# Altium footprint library ATM90E3x-DB.PcbLib: 32 footprints (part 2 of 2)
Each footprint in its own frame and in the unit in brackets; x right, y up, seen from the top. Pads: shape width x height; smd on the part's side, far side on the other; paste and mask are expansions set on the pad; w line width, h text height; cw(c..) or ccw(c..) is an arc to the next point about the centre after c.
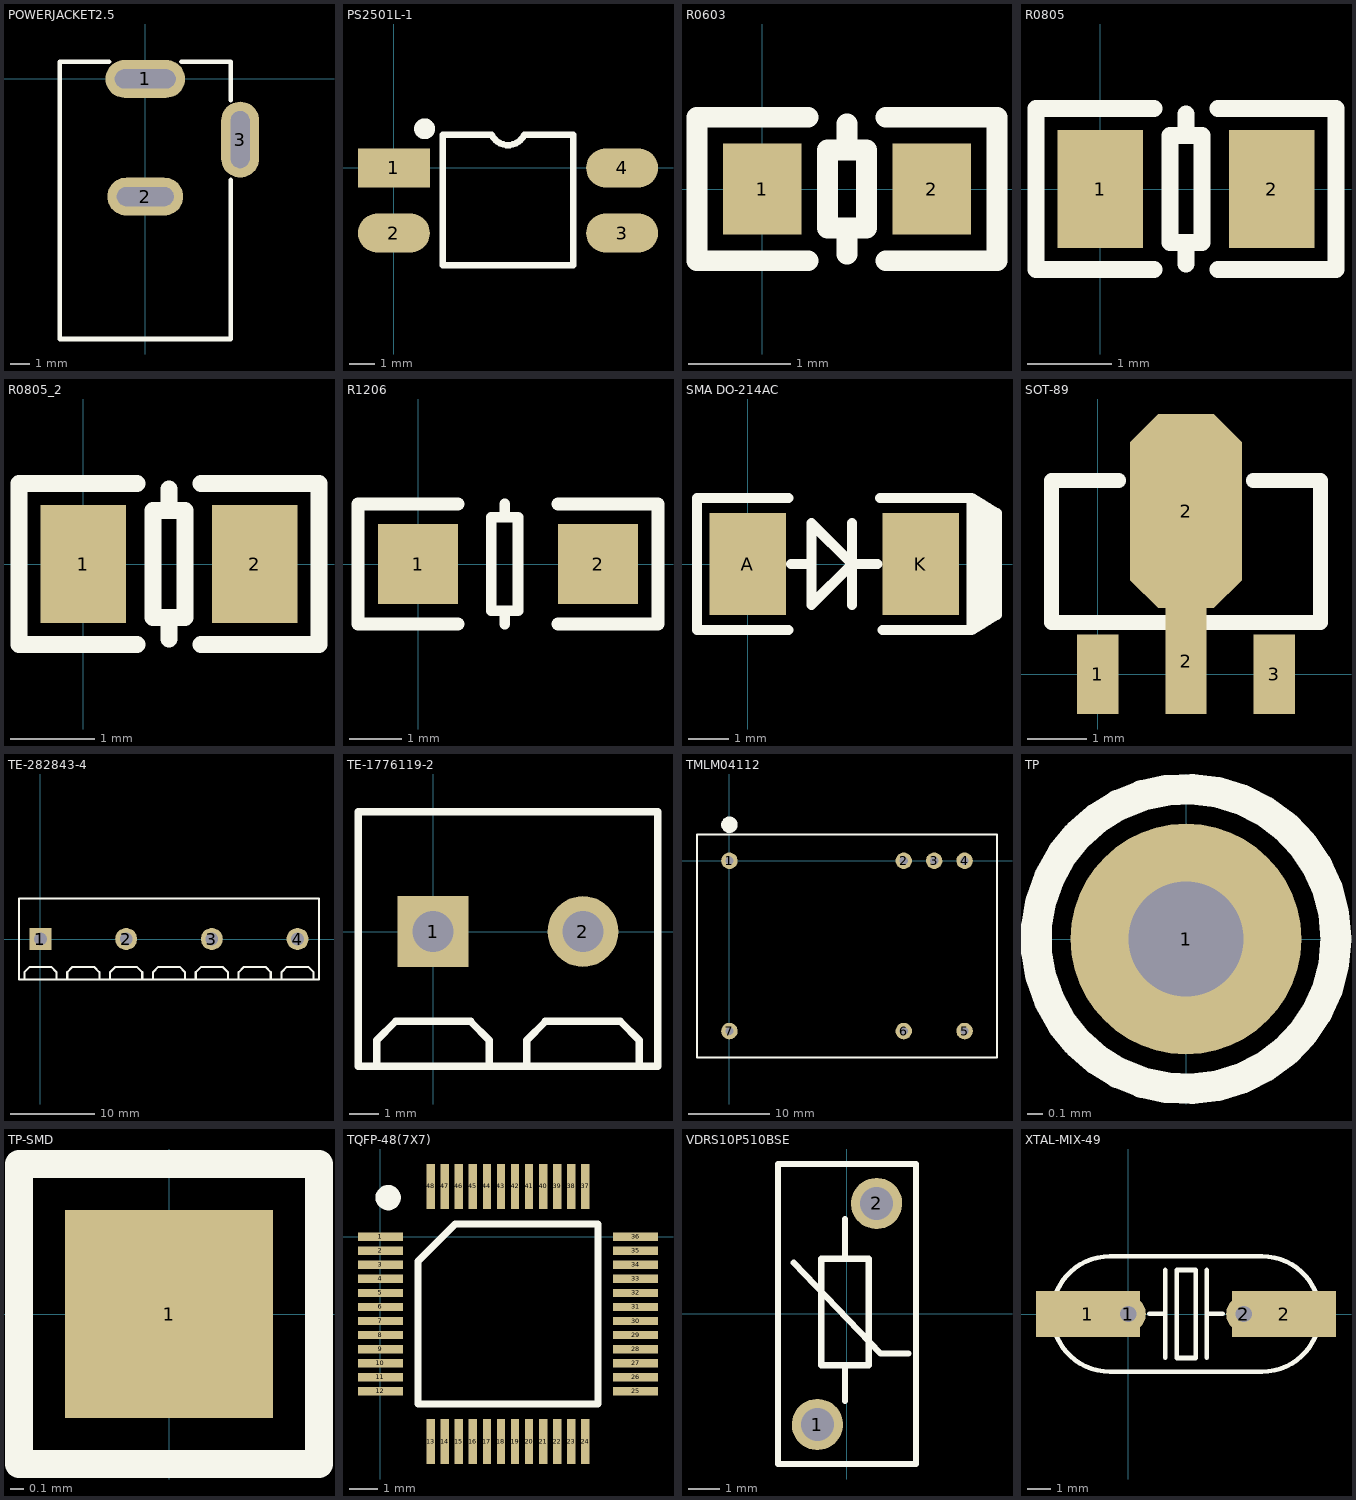
[diagram p1: the footprints below, top view; thin cyan lines are the x and y axes]

## POWERJACKET2.5 [mm] "PowerJacket2.5"
height 1.6
pads (3):
  oval 4.2x2 hole 1 slot 3.2 at 0 deg: 1(0,0)
  oval 4x2 hole 1 slot 3 at 0 deg: 2(0,-6.2)
  oval 2x4 hole 1 slot 3 at 90 deg: 3(5,-3.2)
Top Overlay:
  lines w0.254: -1.905,0.9 -4.5,0.9 -4.5,-13.7 4.5,-13.7 4.5,-5.318 ; 1.905,0.9 4.5,0.9 4.5,-1.127
3D body "User Library-DC_JACK.step": height 11.03, standoff -3.97, extent -4.5,-13.854 5.3,0.646

## PS2501L-1 [mm] "PS2501L-1"
height 1.6
pads (4):
  rect 2.8x1.524 smd: 1(0,0)
  oval 2.8x1.524 smd: 2(0,-2.54) 3(8.89,-2.54) 4(8.89,0)
Top Overlay:
  circle w0.406: c1.194,1.524 r0.203
  lines w0.254: 3.81,1.29 ccw(c4.445,1.592) 5.08,1.29 ; 3.817,1.29 1.912,1.29 1.912,-3.79 6.992,-3.79 6.992,1.29 5.087,1.29
3D body "User Library-MDIP_4L.STEP": height 3.85, standoff 0, extent -0.628,-3.545 9.532,1.045

## R0603 [mil] "R0603"
pads (2):
  rect 30x35 smd: 1(0,0) 2(65,0)
Top Overlay:
  lines w8: 17.5,-27.5 -25,-27.5 -25,27.5 17.5,27.5 ; 32.5,-25 32.5,-15 ; 32.5,15 32.5,25 ; 47.5,-27.5 90,-27.5 90,27.5 47.5,27.5 ; 25,-15 40,-15 40,15 25,15 25,-15
3D body "User Library-res0603-1.step": height 15.75, standoff 0, extent 1,-15.75 64,15.75

## R0805 [mil] "R0805"
height 62.99
pads (2):
  rect 40x55 smd: 1(0,0) 2(80,0)
Top Overlay:
  lines w8: 25,-37.5 -30,-37.5 -30,37.5 25,37.5 ; 40,-35 40,-25 ; 40,25 40,35 ; 55,-37.5 110,-37.5 110,37.5 55,37.5 ; 32.5,-25 32.5,25 47.5,25 47.5,-25 32.5,-25
3D body "User Library-res0805-1.step": height 19.68, standoff 0, extent 0.63,-24.6 79.37,24.6

## R0805_2 [mil]
pads (2):
  rect 40x55 smd: 1(0,0) 2(80,0)
Top Overlay:
  lines w8: 25,-37.5 -30,-37.5 -30,37.5 25,37.5 ; 40,-35 40,-25 ; 40,25 40,35 ; 55,-37.5 110,-37.5 110,37.5 55,37.5 ; 32.5,-25 32.5,25 47.5,25 47.5,-25 32.5,-25
3D body "User Library-res0805-1.step": height 19.68, standoff 0, extent 0.63,-24.6 79.37,24.6

## R1206 [mil] "R1206"
height 62.99
pads (2):
  rect 60x60 smd: 1(0,0) 2(135,0)
Top Overlay:
  lines w8: 65,-45 65,-35 ; 65,35 65,45 ; 55,-35 55,35 75,35 75,-35 55,-35
  lines w10: 30,-45 -45,-45 -45,45 30,45 ; 105,-45 180,-45 180,45 105,45
3D body "User Library-res1206-1.step": height 21.65, standoff 0, extent 4.51,-31.49 130.5,31.51

## SMA DO-214AC [mil] "DIODE, SMA DO-214AC"
height 62.99
pads (2):
  rect 75x100 smd: A(0,0) K(170,0)
Top Overlay:
  lines w10: 40,-65 -50,-65 -50,65 40,65 ; 42.5,0 62.5,0 ; 102.5,-40 102.5,40 ; 127.5,0 102.5,0 ; 130,65 220,65 ; 132.5,-65 220,-65 ; 230,-59 230,59 ; 236.67,-55 236.67,55 ; 102.5,0 62.5,40 62.5,-40 102.5,0 ; 220,-65 220,65 ; 220,-65 245,-50 245,50 220,65
3D body "User Library-DO-214AC SMA.step": height 94.57, standoff -0.12, extent -17.35,-51.18 187.37,51.18

## SOT-89 [mm] "SOT-89"
pads (4):
  rect 0.7x1.35 smd: 1(0,0) 3(3,0)
  rect 0.7x1.8 smd: 2(1.5,0.225)
  oct 1.9x3.3 smd: 2(1.5,2.775)
Top Overlay:
  lines w0.254: 0.357,3.293 -0.786,3.293 -0.786,0.88 3.786,0.88 3.786,3.293 2.643,3.293
3D body "User Library-SOT-89-1.step": height 1.51, standoff 0, extent -0.75,-0.245 3.75,4.055

## TE-282843-4 [mm]
height 1.6
pads (4):
  rect 2.6x2.6 hole 1.5: 1(0,0)
  round 2.6 hole 1.5: 2(10.16,0) 3(20.32,0) 4(30.48,0)
Top Overlay:
  lines w0.254: -1.905,-4.762 -1.905,-3.937 -1.27,-3.302 1.27,-3.302 1.905,-3.937 1.905,-4.762 ; 3.175,-4.762 3.175,-3.937 3.81,-3.302 6.35,-3.302 6.985,-3.937 6.985,-4.762 ; 8.255,-4.762 8.255,-3.937 8.89,-3.302 11.43,-3.302 12.065,-3.937 12.065,-4.762 ; 13.335,-4.762 13.335,-3.937 13.97,-3.302 16.51,-3.302 17.145,-3.937 17.145,-4.762 ; 18.415,-4.762 18.415,-3.937 19.05,-3.302 21.59,-3.302 22.225,-3.937 22.225,-4.762 ; 23.495,-4.762 23.495,-3.937 24.13,-3.302 26.67,-3.302 27.305,-3.937 27.305,-4.762 ; 28.575,-4.762 28.575,-3.937 29.21,-3.302 31.75,-3.302 32.385,-3.937 32.385,-4.762 ; -2.54,-4.8 -2.54,4.8 33.02,4.8 33.02,-4.8 -2.54,-4.8
3D body "c-282843-4-e-3d.stp": height 15.22, standoff -3.48, extent -2.536,-4.572 33.524,4.428

## TE-1776119-2 [mm]
height 1.6
pads (2):
  rect 2.4x2.4 hole 1.4: 1(0,0)
  round 2.4 hole 1.4: 2(5.08,0)
Top Overlay:
  lines w0.254: -1.905,-4.508 -1.905,-3.683 -1.27,-3.048 1.27,-3.048 1.905,-3.683 1.905,-4.508 ; 3.175,-4.508 3.175,-3.683 3.81,-3.048 6.35,-3.048 6.985,-3.683 6.985,-4.508 ; -2.54,-4.572 7.62,-4.572 7.62,4.064 -2.54,4.064 -2.54,-4.572
3D body "c-1776119-2-b-3d.stp": height 10.04, standoff -2.56, extent -3.094,-4.39 7.666,3.81

## TMLM04112 [mil] "TMLM04112"
height 62.99
pads (7):
  round 80 hole 40: 1(0,0) 2(846.45,0) 3(994.09,0) 4(1141.73,0) 5(1141.73,-826.77) 6(846.45,-826.77) 7(0,-826.77)
Top Overlay:
  circle w40: c0,175 r20
  lines w10: -157.48,-954.72 1299.21,-954.72 1299.21,127.95 -157.48,127.95 -157.48,-954.72
3D body: height 675.2, standoff 1.97, extent -119.14,-923.39 1260.86,96.61
3D body: height 673.23, standoff 0, extent -159.14,-953.39 1300.86,126.61

## TP [mil] "TP"
height 62.99
pads (1):
  round 60 hole 30: 1(0,0)
Top Overlay:
  circle w8: c0,0 r39.01

## TP-SMD [mil] "JMP-SMD"
pads (1):
  rect 60x60 smd: 1(0,0)
Top Overlay:
  lines w8: -43.31,-43.31 43.31,-43.31 43.31,43.31 -43.31,43.31 -43.31,-43.31

## TQFP-48(7X7) [mm] "PSC-4167; Outline: 7.0mm x 7.0mm x 1.0mm; Pitch: 0.5 mm"
height 1
pads (48):
  rect 1.6x0.3 smd: 1(0,0) 2(0,-0.5) 3(0,-1) 4(0,-1.5) 5(0,-2) 6(0,-2.5) 7(0,-3) 8(0,-3.5) 9(0,-4) 10(0,-4.5) 11(0,-5) 12(0,-5.5) 25(9.1,-5.5) 26(9.1,-5) 27(9.1,-4.5) 28(9.1,-4) 29(9.1,-3.5) 30(9.1,-3) 31(9.1,-2.5) 32(9.1,-2) 33(9.1,-1.5) 34(9.1,-1) 35(9.1,-0.5) 36(9.1,0)
  rect 0.3x1.6 smd: 13(1.8,-7.3) 14(2.3,-7.3) 15(2.8,-7.3) 16(3.3,-7.3) 17(3.8,-7.3) 18(4.3,-7.3) 19(4.8,-7.3) 20(5.3,-7.3) 21(5.8,-7.3) 22(6.3,-7.3) 23(6.8,-7.3) 24(7.3,-7.3) 37(7.3,1.8) 38(6.8,1.8) 39(6.3,1.8) 40(5.8,1.8) 41(5.3,1.8) 42(4.8,1.8) 43(4.3,1.8) 44(3.8,1.8) 45(3.3,1.8) 46(2.8,1.8) 47(2.3,1.8) 48(1.8,1.8)
Top Overlay:
  circle w0.5: c0.275,1.4 r0.2
  lines w0.254: 1.335,-5.965 1.335,-0.87 2.67,0.465 7.765,0.465 7.765,-5.965 1.335,-5.965
3D body "User Library-LQFP48_Grid_0_5.STEP": height 1.6, standoff 0, extent 0.05,-7.25 9.05,1.75

## VDRS10P510BSE [mil] "VDRS10P510BSE"
height 62.99
pads (2):
  round 65 hole 42: 1(-37.5,-140) 2(37.5,140)
Top Overlay:
  lines w7.87: -67.5,65 42.5,-50 77.5,-50 ; -2.5,-110 -2.5,-65 ; -2.5,70 -2.5,120 ; -87.5,-190 87.5,-190 87.5,190 -87.5,190 -87.5,-190 ; -32.5,-65 27.5,-65 27.5,70 -32.5,70 -32.5,-65
3D body "User Library-JVR10N331k_vertical.step": height 472.44, standoff -98.43, extent -122.84,-222.08 122.84,231.88

## XTAL-MIX-49 [mm]
pads (4):
  rect 4.5x2 smd: 1(-1.75,0) 2(6.75,0)
  round 1.524 hole 0.711: 1(0,0) 2(5,0)
Top Overlay:
  lines w0.203: 0.905,0.005 1.6,0.005 ; 1.6,-1.9 1.6,1.91 ; 3.4,-1.9 3.4,1.91 ; 3.4,0.005 4.095,0.005 ; -0.8,-2.5 cw(c-0.8,0) -0.8,2.5 5.8,2.5 cw(c5.8,0) 5.8,-2.5 -0.8,-2.5 ; 2.1,-1.905 2.921,-1.905 2.921,1.905 2.1,1.905 2.1,-1.905
3D body "User Library-SMU4.STEP": height 4.05, standoff 0.05, extent -3.75,-2.286 8.75,2.514